# Altium footprint library MODULE_TPSM843321RCJR.PcbLib: 1 footprints
Each footprint in its own frame and in the unit in brackets; x right, y up, seen from the top. Pads: shape width x height; smd on the part's side, far side on the other; paste and mask are expansions set on the pad; w line width, h text height; cw(c..) or ccw(c..) is an arc to the next point about the centre after c.
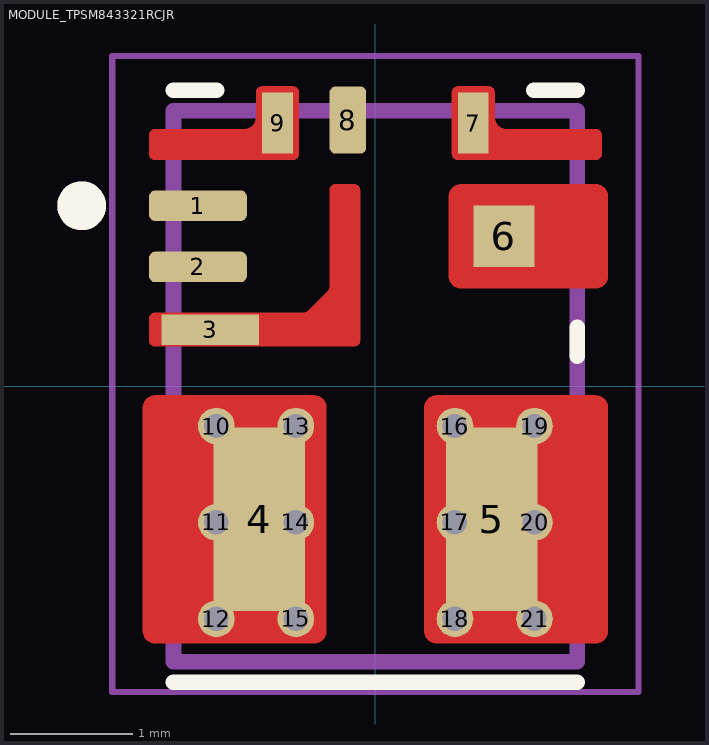
[diagram p0: the footprint, top view; thin cyan lines are the x and y axes]

## MODULE_TPSM843321RCJR [mm]
height 2.05
pads (21):
  rrect40% 0.8x0.25 smd mask+0: 1(-1.45,1.475) 2(-1.45,0.975)
  rect 0.8x0.25 smd mask+0: 3(-1.35,0.463)
  rect 0.75x1.5 smd paste-2 mask+0: 4(-0.95,-1.088) 5(0.95,-1.088)
  rect 0.5x0.5 smd paste-1 mask+0: 6(1.05,1.225)
  rect 0.25x0.5 smd paste-1 mask+0: 7(0.8,2.15) 9(-0.8,2.15)
  rrect33% 0.3x0.55 smd mask+0: 8(-0.225,2.175)
  round 0.3 hole 0.2 mask+0: 10(-1.3,-0.325) 11(-1.3,-1.113) 12(-1.3,-1.9) 13(-0.65,-0.325) 14(-0.65,-1.113) 15(-0.65,-1.9) 16(0.65,-0.325) 17(0.65,-1.113) 18(0.65,-1.9) 19(1.3,-0.325) 20(1.3,-1.113) 21(1.3,-1.9)
Top Layer:
  region: 1.81,-0.076 1.816,-0.076 1.821,-0.077 1.826,-0.078 1.831,-0.08 1.836,-0.082 1.841,-0.084 1.845,-0.086 1.85,-0.088 1.854,-0.091 1.859,-0.094 1.863,-0.097 1.867,-0.101 1.871,-0.104 1.874,-0.108 1.878,-0.112 1.881,-0.116 1.884,-0.121 1.887,-0.125 1.889,-0.13 1.891,-0.134 1.893,-0.139 1.895,-0.144 1.897,-0.149 1.898,-0.154 1.899,-0.159 1.899,-0.165 1.9,-0.17 1.9,-0.175 1.9,-2 1.9,-2.005 1.899,-2.01 1.899,-2.016 1.898,-2.021 1.897,-2.026 1.895,-2.031 1.893,-2.036 1.891,-2.041 1.889,-2.045 1.887,-2.05 1.884,-2.054 1.881,-2.059 1.878,-2.063 1.874,-2.067 1.871,-2.071 1.867,-2.074 1.863,-2.078 1.859,-2.081 1.854,-2.084 1.85,-2.087 1.845,-2.089 1.841,-2.091 1.836,-2.093 1.831,-2.095 1.826,-2.097 1.821,-2.098 1.816,-2.099 1.81,-2.099 1.805,-2.1 0.495,-2.1 0.49,-2.099 0.484,-2.099 0.479,-2.098 0.474,-2.097 0.469,-2.095 0.464,-2.093 0.459,-2.091 0.455,-2.089 0.45,-2.087 0.446,-2.084 0.441,-2.081 0.437,-2.078 0.433,-2.074 0.429,-2.071 0.426,-2.067 0.422,-2.063 0.419,-2.059 0.416,-2.054 0.413,-2.05 0.411,-2.045 0.409,-2.041 0.407,-2.036 0.405,-2.031 0.403,-2.026 0.402,-2.021 0.401,-2.016 0.401,-2.01 0.4,-2.005 0.4,-2 0.4,-0.175 0.4,-0.17 0.401,-0.165 0.401,-0.159 0.402,-0.154 0.403,-0.149 0.405,-0.144 0.407,-0.139 0.409,-0.134 0.411,-0.13 0.413,-0.125 0.416,-0.121 0.419,-0.116 0.422,-0.112 0.426,-0.108 0.429,-0.104 0.433,-0.101 0.437,-0.097 0.441,-0.094 0.446,-0.091 0.45,-0.088 0.455,-0.086 0.459,-0.084 0.464,-0.082 0.469,-0.08 0.474,-0.078 0.479,-0.077 0.484,-0.076 0.49,-0.076 0.495,-0.075 1.805,-0.075
  region: 175 vertices and 0 holes, not listed, extent 0.625,1.85 1.85,2.45
  region: -0.49,-0.076 -0.484,-0.076 -0.479,-0.077 -0.474,-0.078 -0.469,-0.08 -0.464,-0.082 -0.459,-0.084 -0.455,-0.086 -0.45,-0.088 -0.446,-0.091 -0.441,-0.094 -0.437,-0.097 -0.433,-0.101 -0.429,-0.104 -0.426,-0.108 -0.422,-0.112 -0.419,-0.116 -0.416,-0.121 -0.413,-0.125 -0.411,-0.13 -0.409,-0.134 -0.407,-0.139 -0.405,-0.144 -0.403,-0.149 -0.402,-0.154 -0.401,-0.159 -0.401,-0.165 -0.4,-0.17 -0.4,-0.175 -0.4,-2 -0.4,-2.005 -0.401,-2.01 -0.401,-2.016 -0.402,-2.021 -0.403,-2.026 -0.405,-2.031 -0.407,-2.036 -0.409,-2.041 -0.411,-2.045 -0.413,-2.05 -0.416,-2.054 -0.419,-2.059 -0.422,-2.063 -0.426,-2.067 -0.429,-2.071 -0.433,-2.074 -0.437,-2.078 -0.441,-2.081 -0.446,-2.084 -0.45,-2.087 -0.455,-2.089 -0.459,-2.091 -0.464,-2.093 -0.469,-2.095 -0.474,-2.097 -0.479,-2.098 -0.484,-2.099 -0.49,-2.099 -0.495,-2.1 -1.805,-2.1 -1.81,-2.099 -1.816,-2.099 -1.821,-2.098 -1.826,-2.097 -1.831,-2.095 -1.836,-2.093 -1.841,-2.091 -1.845,-2.089 -1.85,-2.087 -1.854,-2.084 -1.859,-2.081 -1.863,-2.078 -1.867,-2.074 -1.871,-2.071 -1.874,-2.067 -1.878,-2.063 -1.881,-2.059 -1.884,-2.054 -1.887,-2.05 -1.889,-2.045 -1.891,-2.041 -1.893,-2.036 -1.895,-2.031 -1.897,-2.026 -1.898,-2.021 -1.899,-2.016 -1.899,-2.01 -1.9,-2.005 -1.9,-2 -1.9,-0.175 -1.9,-0.17 -1.899,-0.165 -1.899,-0.159 -1.898,-0.154 -1.897,-0.149 -1.895,-0.144 -1.893,-0.139 -1.891,-0.134 -1.889,-0.13 -1.887,-0.125 -1.884,-0.121 -1.881,-0.116 -1.878,-0.112 -1.874,-0.108 -1.871,-0.104 -1.867,-0.101 -1.863,-0.097 -1.859,-0.094 -1.854,-0.091 -1.85,-0.088 -1.845,-0.086 -1.841,-0.084 -1.836,-0.082 -1.831,-0.08 -1.826,-0.078 -1.821,-0.077 -1.816,-0.076 -1.81,-0.076 -1.805,-0.075 -0.495,-0.075
  region: 1.81,1.649 1.816,1.649 1.821,1.648 1.826,1.647 1.831,1.645 1.836,1.643 1.841,1.641 1.845,1.639 1.85,1.637 1.854,1.634 1.859,1.631 1.863,1.628 1.867,1.624 1.871,1.621 1.874,1.617 1.878,1.613 1.881,1.609 1.884,1.604 1.887,1.6 1.889,1.595 1.891,1.591 1.893,1.586 1.895,1.581 1.897,1.576 1.898,1.571 1.899,1.566 1.899,1.56 1.9,1.555 1.9,1.55 1.9,0.9 1.9,0.895 1.899,0.89 1.899,0.884 1.898,0.879 1.897,0.874 1.895,0.869 1.893,0.864 1.891,0.859 1.889,0.855 1.887,0.85 1.884,0.846 1.881,0.841 1.878,0.837 1.874,0.833 1.871,0.829 1.867,0.826 1.863,0.822 1.859,0.819 1.854,0.816 1.85,0.813 1.845,0.811 1.841,0.809 1.836,0.807 1.831,0.805 1.826,0.803 1.821,0.802 1.816,0.801 1.81,0.801 1.805,0.8 0.695,0.8 0.69,0.801 0.684,0.801 0.679,0.802 0.674,0.803 0.669,0.805 0.664,0.807 0.659,0.809 0.655,0.811 0.65,0.813 0.646,0.816 0.641,0.819 0.637,0.822 0.633,0.826 0.629,0.829 0.626,0.833 0.622,0.837 0.619,0.841 0.616,0.846 0.613,0.85 0.611,0.855 0.609,0.859 0.607,0.864 0.605,0.869 0.603,0.874 0.602,0.879 0.601,0.884 0.601,0.89 0.6,0.895 0.6,0.9 0.6,1.55 0.6,1.555 0.601,1.56 0.601,1.566 0.602,1.571 0.603,1.576 0.605,1.581 0.607,1.586 0.609,1.591 0.611,1.595 0.613,1.6 0.616,1.604 0.619,1.609 0.622,1.613 0.626,1.617 0.629,1.621 0.633,1.624 0.637,1.628 0.641,1.631 0.646,1.634 0.65,1.637 0.655,1.639 0.659,1.641 0.664,1.643 0.669,1.645 0.674,1.647 0.679,1.648 0.684,1.649 0.69,1.649 0.695,1.65 1.805,1.65
  region: 198 vertices and 0 holes, not listed, extent -1.85,0.326 -0.125,1.65
  region: 175 vertices and 0 holes, not listed, extent -1.85,1.85 -0.625,2.45
Top Overlay:
  circle w0.2: c-2.4,1.475 r0.1
  lines w0.127: -1.65,-2.42 1.65,-2.42 ; -1.65,2.42 -1.295,2.42 ; 1.295,2.42 1.65,2.42 ; 1.65,0.245 1.65,0.48
Top Paste:
  drawing of 13 lines, arcs and shapes, not listed
Top Solder:
  drawing of 9 lines, arcs and shapes, not listed
Assembly Top:
  circle w0.2: c-2.4,1.475 r0.1
  lines w0.127: -1.65,-2.25 -1.65,2.25 1.65,2.25 1.65,-2.25 -1.65,-2.25
Courtyard Top:
  lines w0.05: -2.15,-2.5 -2.15,2.7 2.15,2.7 2.15,-2.5 -2.15,-2.5
3D body "step_temp.STEP": height 2.05, standoff 0, extent -1.65,-2.25 1.65,2.25